# EAGLE library part HOEKSTEP17 (library Hoektronics)
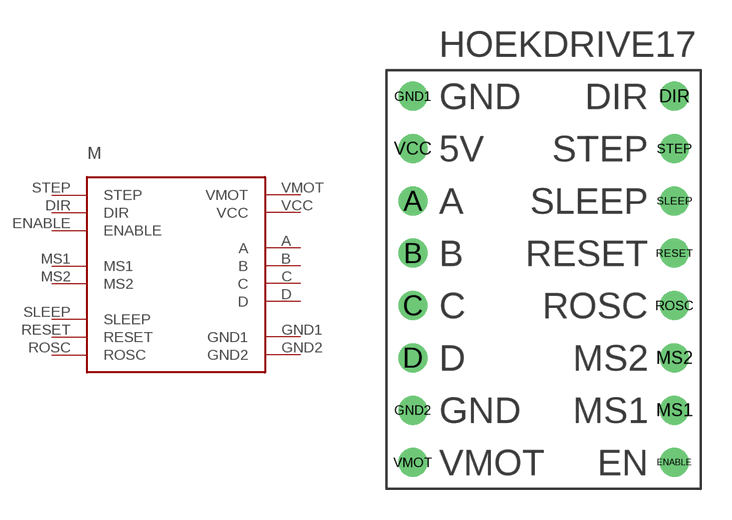
[diagram p7: symbol with the pads of HOEKSTEP17; footprint HOEKSTEP17]

Designator prefix M

## HOEKSTEP17  [HOEKSTEP17]
A  A
B  B
C  C
D  D
DIR  DIR
ENABLE  ENABLE
GND1  GND1
GND2  GND2
MS1  MS1
MS2  MS2
RESET  RESET
ROSC  ROSC
SLEEP  SLEEP
STEP  STEP
VCC  VCC
VMOT  VMOT

## Footprint HOEKSTEP17 (pad centres in mm)
drill 0.9: A -6.35,-5.08; B -6.35,-7.62; C -6.35,-10.16; D -6.35,-12.7; DIR 6.35,0; ENABLE 6.35,-17.78; GND1 -6.35,0; GND2 -6.35,-15.24; MS1 6.35,-15.24; MS2 6.35,-12.7; RESET 6.35,-7.62; ROSC 6.35,-10.16; SLEEP 6.35,-5.08; STEP 6.35,-2.54; VCC -6.35,-2.54; VMOT -6.35,-17.78